# EAGLE library part EYSGJNZWY (library EYSGJNZWY)
Bluetooth 1.8V to 3.6V 49-Pin LGA T/R
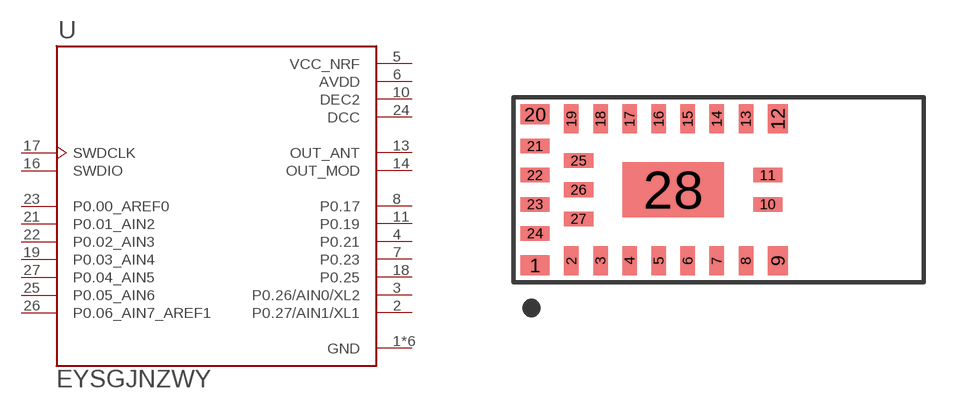
[diagram p0: symbol with the pads of BLE_EYSGJNZWY; footprint BLE_EYSGJNZWY]

Designator prefix U

## EYSGJNZWY (AVAILABILITY: Unavailable; DESCRIPTION: Bluetooth Bluetooth v4.2 Transceiver Module 2.4GHz Integrated, Trace Surface Mount; MF: Taiyo Yuden; MP: EYSGJNZWY; PACKAGE: SMD-28 Taiyo Yuden; PRICE: None)  [BLE_EYSGJNZWY]
1  GND  pwr
2  P0.27/AIN1/XL1
3  P0.26/AIN0/XL2
4  P0.21
5  VCC_NRF  pwr
6  AVDD  pwr
7  P0.23
8  P0.17
9  GND  pwr
10  DEC2  pwr
11  P0.19
12  GND  pwr
13  OUT_ANT
14  OUT_MOD
15  GND  pwr
16  SWDIO
17  SWDCLK  in
18  P0.25
19  P0.03_AIN4
20  GND  pwr
21  P0.01_AIN2
22  P0.02_AIN3
23  P0.00_AREF0
24  DCC  pwr
25  P0.05_AIN6
26  P0.06_AIN7_AREF1
27  P0.04_AIN5
28  GND  pwr

## Footprint BLE_EYSGJNZWY (pad centres in mm)
smd 0.8 x 0.55: 1 0.6,0.475; 20 0.6,4.625
smd 0.4 x 0.8: 2 1.6,0.6; 3 2.4,0.6; 4 3.2,0.6; 5 4,0.6; 6 4.8,0.6; 7 5.6,0.6; 8 6.4,0.6; 13 6.4,4.5; 14 5.6,4.5; 15 4.8,4.5; 16 4,4.5; 17 3.2,4.5; 18 2.4,4.5; 19 1.6,4.5
smd 0.55 x 0.8: 9 7.275,0.6; 12 7.275,4.5
smd 0.8 x 0.4: 10 7,2.15; 11 7,2.95; 21 0.6,3.75; 22 0.6,2.95; 23 0.6,2.15; 24 0.6,1.35; 25 1.8,3.35; 26 1.8,2.55; 27 1.8,1.75
smd 2.8 x 1.5: 28 4.4,2.55